# Altium integrated library 1053.IntLib: 1 symbol
Pins are listed as number, name and electrical type; pins without a type are passive.

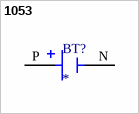
[diagram p0: symbol 1053]

## 1053
designator BT?
Battery Holder, Auto-In/EZ-Out, THM, Coin Cell, 24mm, Plastic, UL94V-0, Black | Keystone Electronics 1053; MP: 1053; SnapEDA_Link: https://www.snapeda.com/parts/1053/Keystone/view-part/?ref=snap; Package: Package; Value: *; MF: Keystone Electronics; Check_prices: https://www.snapeda.com/parts/1053/Keystone/view-part/?ref=eda
footprint BAT_1053
pins: N NEG, P POS